# EAGLE library part HYB25D256 (library IC)
Infineon Technologies HYB25D256[400/800/160] 256-Mbit double data rate SDRAM
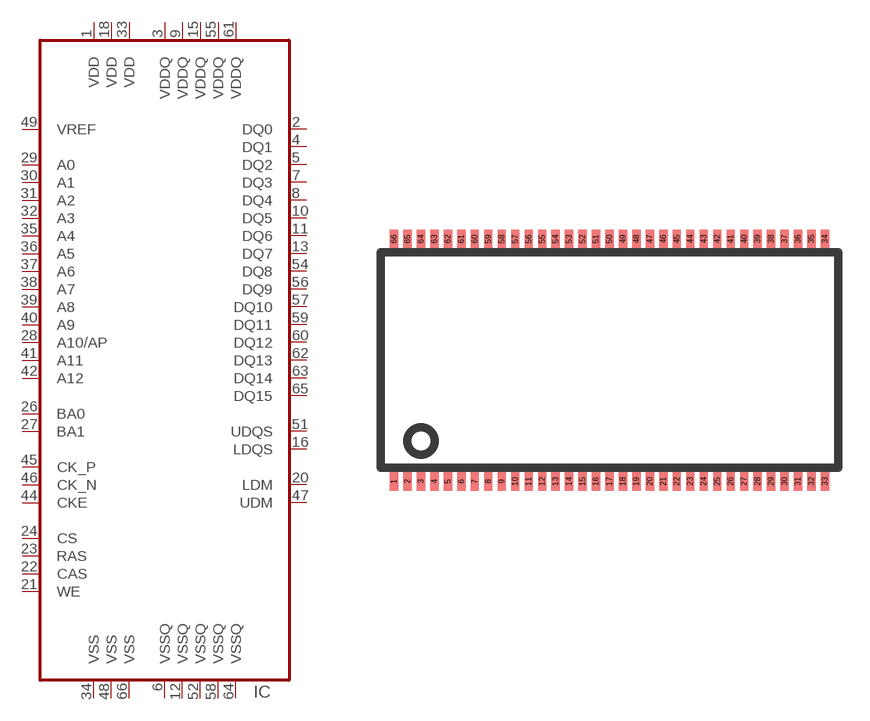
[diagram p81: symbol with the pads of TSOPII-66; footprint TSOPII-66]

Designator prefix IC

## HYB25D256  [TSOPII-66]
1  VDD  pwr
2  DQ0
3  VDDQ  pwr
4  DQ1
5  DQ2
6  VSSQ  pwr
7  DQ3
8  DQ4
9  VDDQ  pwr
10  DQ5
11  DQ6
12  VSSQ  pwr
13  DQ7
15  VDDQ  pwr
16  LDQS
18  VDD  pwr
20  LDM
21  WE
22  CAS
23  RAS
24  CS
26  BA0
27  BA1
28  A10/AP
29  A0
30  A1
31  A2
32  A3
33  VDD  pwr
34  VSS  pwr
35  A4
36  A5
37  A6
38  A7
39  A8
40  A9
41  A11
42  A12
44  CKE
45  CK_P
46  CK_N
47  UDM
48  VSS  pwr
49  VREF  pwr
51  UDQS
52  VSSQ  pwr
54  DQ8
55  VDDQ  pwr
56  DQ9
57  DQ10
58  VSSQ  pwr
59  DQ11
60  DQ12
61  VDDQ  pwr
62  DQ13
63  DQ14
64  VSSQ  pwr
65  DQ15
66  VSS  pwr

## Footprint TSOPII-66 (pad centres in mm)
66 pin TSOP II package with 0.65mm pitch
smd 0.4 x 0.9: 1 -10.4,-5.85; 2 -9.75,-5.85; 3 -9.1,-5.85; 4 -8.45,-5.85; 5 -7.8,-5.85; 6 -7.15,-5.85; 7 -6.5,-5.85; 8 -5.85,-5.85; 9 -5.2,-5.85; 10 -4.55,-5.85; 11 -3.9,-5.85; 12 -3.25,-5.85; 13 -2.6,-5.85; 14 -1.95,-5.85; 15 -1.3,-5.85; 16 -0.65,-5.85; 17 0,-5.85; 18 0.65,-5.85; 19 1.3,-5.85; 20 1.95,-5.85; 21 2.6,-5.85; 22 3.25,-5.85; 23 3.9,-5.85; 24 4.55,-5.85; 25 5.2,-5.85; 26 5.85,-5.85; 27 6.5,-5.85; 28 7.15,-5.85; 29 7.8,-5.85; 30 8.45,-5.85; 31 9.1,-5.85; 32 9.75,-5.85; 33 10.4,-5.85; 34 10.4,5.85; 35 9.75,5.85; 36 9.1,5.85; 37 8.45,5.85; 38 7.8,5.85; 39 7.15,5.85; 40 6.5,5.85; 41 5.85,5.85; 42 5.2,5.85; 43 4.55,5.85; 44 3.9,5.85; 45 3.25,5.85; 46 2.6,5.85; 47 1.95,5.85; 48 1.3,5.85; 49 0.65,5.85; 50 0,5.85; 51 -0.65,5.85; 52 -1.3,5.85; 53 -1.95,5.85; 54 -2.6,5.85; 55 -3.25,5.85; 56 -3.9,5.85; 57 -4.55,5.85; 58 -5.2,5.85; 59 -5.85,5.85; 60 -6.5,5.85; 61 -7.15,5.85; 62 -7.8,5.85; 63 -8.45,5.85; 64 -9.1,5.85; 65 -9.75,5.85; 66 -10.4,5.85